# Altium footprint library PAL.PcbLib: 271 footprints (part 1 of 17)
Each footprint in its own frame and in the unit in brackets; x right, y up, seen from the top. Pads: shape width x height; smd on the part's side, far side on the other; paste and mask are expansions set on the pad; w line width, h text height; cw(c..) or ccw(c..) is an arc to the next point about the centre after c.
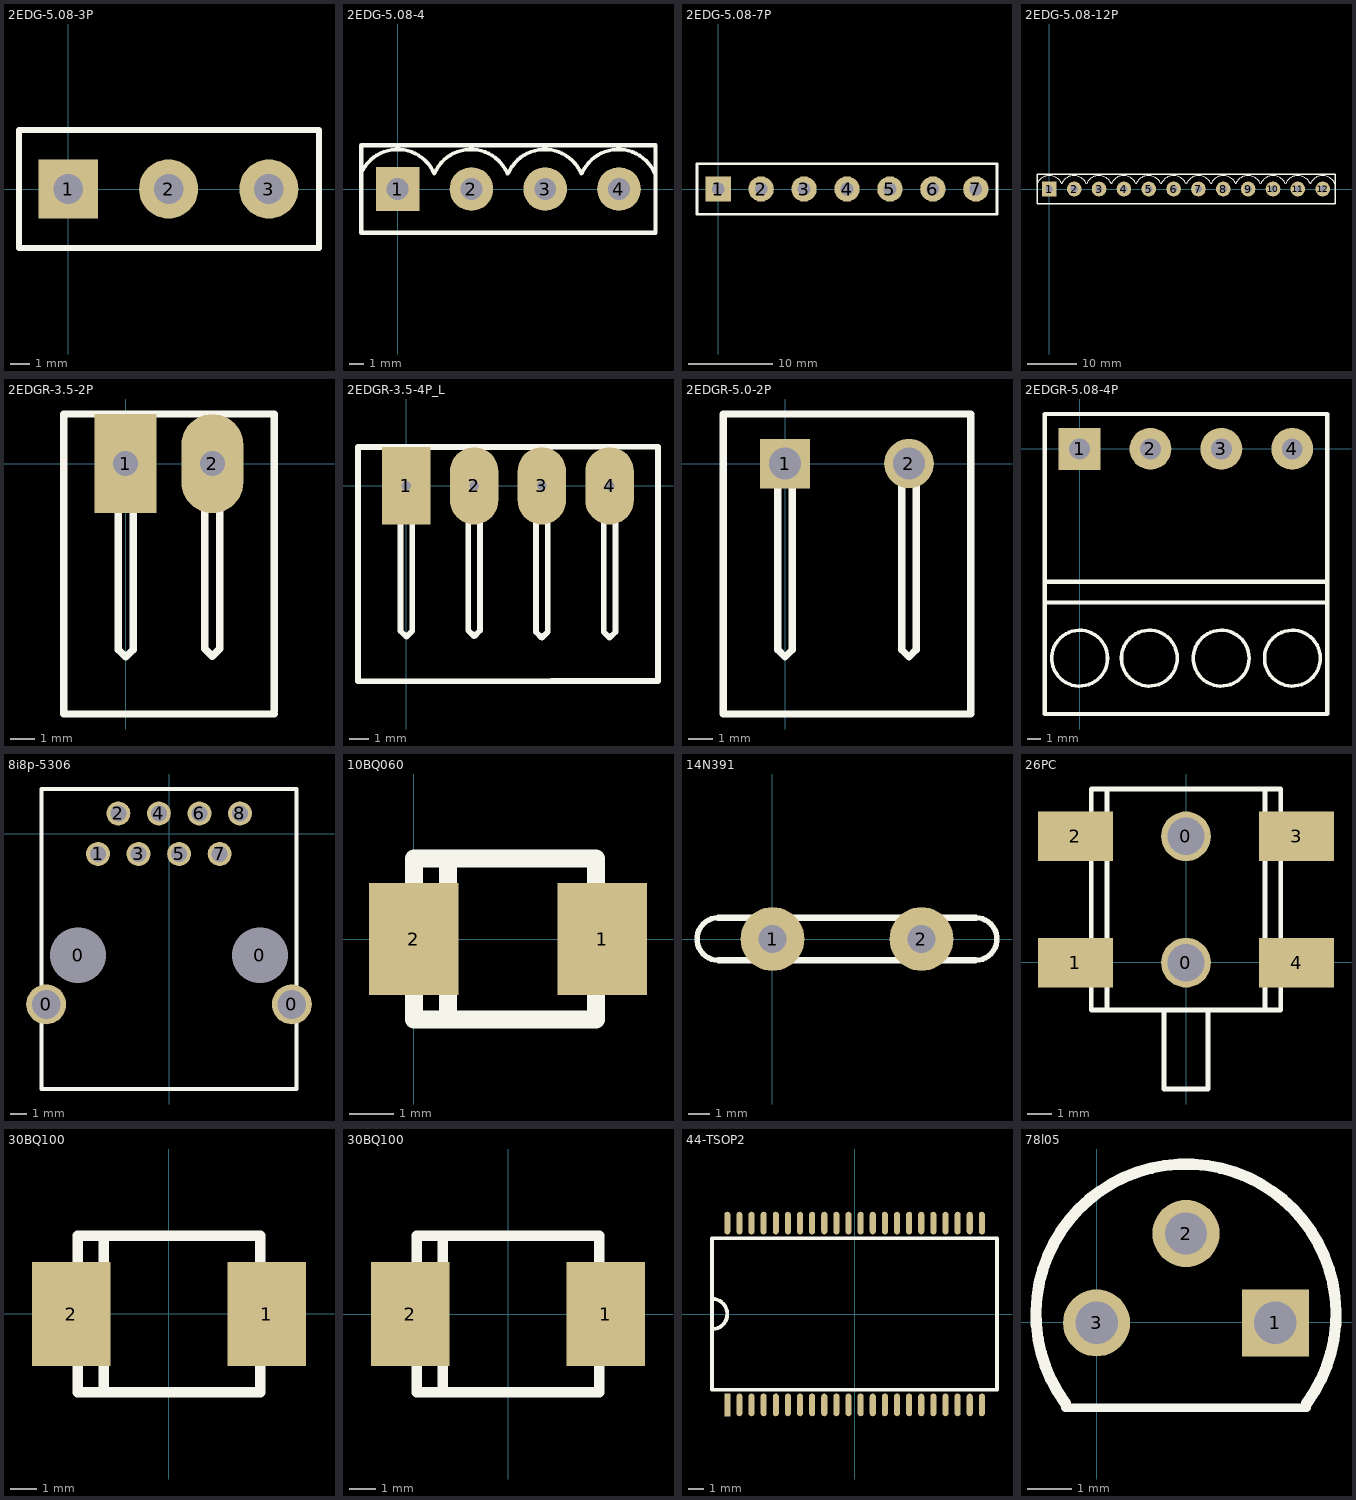
[diagram p0: the footprints below, top view; thin cyan lines are the x and y axes]

## 2EDG-5.08-3P [mm]
pads (3):
  rect 3x3 on Top hole 1.5: 1(0,0)
  round 3 on Top hole 1.5: 2(5.08,0) 3(10.16,0)
Top Overlay:
  lines w0.3: -2.5,-3 12.7,-3 12.7,3 -2.5,3 -2.5,-3

## 2EDG-5.08-4 [mm]
pads (4):
  rect 3x3 on Top hole 1.5: 1(0,0)
  round 3 on Top hole 1.5: 2(5.08,0) 3(10.16,0) 4(15.24,0)
Top Overlay:
  lines w0.254: -2.501,1.086 cw(c0,0) 2.514,1.056 ; 2.549,1.086 cw(c5.05,0) 7.564,1.056 ; 7.624,1.086 cw(c10.125,0) 12.639,1.056 ; 12.699,1.086 cw(c15.2,0) 17.714,1.056
  lines w0.3: -2.5,-3 -2.5,3 17.75,3 17.75,-3 -2.5,-3

## 2EDG-5.08-7P [mm]
pads (7):
  rect 3x3 on Top hole 1.5: 1(0,0)
  round 3 on Top hole 1.5: 2(5.08,0) 3(10.16,0) 4(15.24,0) 5(20.32,0) 6(25.4,0) 7(30.48,0)
Top Overlay:
  lines w0.3: -2.5,-3 -2.5,3 32.98,3 32.98,-3 -2.5,-3

## 2EDG-5.08-12P [mm]
pads (12):
  rect 3x3 on Top hole 1.5: 1(0,0)
  round 3 on Top hole 1.5: 2(5.08,0) 3(10.16,0) 4(15.24,0) 5(20.32,0) 6(25.4,0) 7(30.48,0) 8(35.56,0) 9(40.64,0) 10(45.72,0) 11(50.8,0) 12(55.88,0)
Top Overlay:
  lines w0.254: -2.501,1.086 cw(c0,0) 2.514,1.056 ; 2.549,1.086 cw(c5.05,0) 7.564,1.056 ; 7.624,1.086 cw(c10.125,0) 12.639,1.056 ; 12.699,1.086 cw(c15.2,0) 17.714,1.056 ; 17.774,1.086 cw(c20.275,0) 22.789,1.056 ; 22.899,1.086 cw(c25.4,0) 27.914,1.056 ; 28.024,1.086 cw(c30.525,0) 33.039,1.056 ; 33.074,1.086 cw(c35.575,0) 38.089,1.056 ; 38.124,1.086 cw(c40.625,0) 43.139,1.056 ; 43.249,1.086 cw(c45.75,0) 48.264,1.056 ; 48.299,1.086 cw(c50.8,0) 53.314,1.056 ; 53.374,1.086 cw(c55.875,0) 58.389,1.056
  lines w0.3: -2.5,-3 58.4,-3 58.4,3 -2.5,3 -2.5,-3

## 2EDGR-3.5-2P [mm]
pads (2):
  rect 2.5x4 on Top hole 1: 1(0,0)
  oval 2.5x4 on Top hole 1: 2(3.5,0)
Top Overlay:
  lines w0.3: 6,-10.1 -2.5,-10.1 -2.5,2 6,2 6,-10 ; -0.3,-7.5 -0.3,0 0,0 0.3,0 0.3,-7.5 0,-7.8 -0.3,-7.5 ; 3.2,-7.475 3.2,0.025 3.5,0.025 3.8,0.025 3.8,-7.475 3.5,-7.775 3.2,-7.475

## 2EDGR-3.5-4P_L [mm]
pads (4):
  rect 2.5x4 on Top hole 0.5: 1(0,0)
  oval 2.5x4 on Top hole 0.5: 2(3.5,0) 3(7,0) 4(10.5,0)
Top Overlay:
  lines w0.3: 7.5,-10.1 -2.5,-10.1 -2.5,2 7.5,2 ; 7.5,-10.075 13,-10.075 13,2.025 7.5,2.025 ; -0.3,-7.5 0,-7.8 0.3,-7.5 0.3,0 0,0 -0.3,0 -0.3,-7.5 ; 3.2,-7.475 3.5,-7.775 3.8,-7.475 3.8,0.025 3.5,0.025 3.2,0.025 3.2,-7.475 ; 6.7,-7.55 7,-7.85 7.3,-7.55 7.3,-0.05 7,-0.05 6.7,-0.05 6.7,-7.55 ; 10.2,-7.55 10.5,-7.85 10.8,-7.55 10.8,-0.05 10.5,-0.05 10.2,-0.05 10.2,-7.55

## 2EDGR-5.0-2P [mm] "2EDGR-5.0-2P"
pads (2):
  rect 2x2 on Top hole 1.3: 1(0,0)
  round 2 on Top hole 1.3: 2(5,0)
Top Overlay:
  lines w0.3: -2.5,-10.1 -2.5,2 7.5,2 7.5,-10.1 -2.5,-10.1 ; -0.3,-7.5 0,-7.8 0.3,-7.5 0.3,0 0,0 -0.3,0 -0.3,-7.5 ; 4.7,-7.5 5,-7.8 5.3,-7.5 5.3,0 5,0 4.7,0 4.7,-7.5

## 2EDGR-5.08-4P [mm]
pads (4):
  rect 3x3 on Top hole 1.5: 1(0,0)
  round 3 on Top hole 1.5: 2(5.08,0) 3(10.16,0) 4(15.24,0)
Top Overlay:
  circle w0.254: c0,-15 r2
  circle w0.254: c5,-15 r2
  circle w0.254: c10.15,-15 r2
  circle w0.254: c15.25,-15 r2
  lines w0.3: -2.5,-11 17.75,-11 ; -2.5,-9.525 17.75,-9.525 ; 17.74,-19 -2.5,-19 -2.5,0 -2.5,2.5 17.75,2.5 17.75,-19

## 8i8p-5306 [mm]
pads (12):
  round 2.5 on Top hole 1.8: 0(-7.7,-10.7) 0(7.7,-10.7)
  round 1.5 on Top hole 3.5: 0(-5.7,-7.62) 0(5.7,-7.62)
  round 1.5 on Top hole 1: 1(-4.445,-1.27) 2(-3.175,1.27) 3(-1.905,-1.27) 4(-0.635,1.27) 5(0.635,-1.27) 6(1.905,1.27) 7(3.175,-1.27) 8(4.445,1.27)
Top Overlay:
  lines w0.254: -8,-16 8,-16 8,2.8 -8,2.8 -8,-16

## 10BQ060 [mm]
pads (2):
  rect 2x2.5 smd: 1(4.2,0) 2(0,0)
Top Overlay:
  lines w0.4: 0.762,-1.8 0.762,1.8 ; 0,-1.8 4.064,-1.8 4.064,1.8 0,1.8 0,-1.8

## 14N391 [mm]
pads (2):
  round 3 on Top hole 1.3: 1(0.003,0.002) 2(7.003,0.002)
Top Overlay:
  lines w0.254: -2.547,-0.999 cw(c-2.547,0.002) -2.547,1.002 ; 9.553,-0.999 ccw(c9.553,0.002) 9.553,1.002
  lines w0.3: -2.547,1.002 3.502,1.002 9.553,1.002 ; -2.522,-0.998 3.503,-0.998 9.528,-0.998

## 26PC [mm]
pads (6):
  round 2 on Top hole 1.5: 0(-0.012,-0.01) 0(-0.012,5.07)
  rect 3x2 smd: 1(-4.457,-0.01) 2(-4.457,5.07) 3(4.433,5.07) 4(4.433,-0.01)
Top Overlay:
  lines w0.2: -3.187,-1.915 -3.187,6.975 ; -0.901,-1.915 -0.901,-5.09 0.877,-5.09 0.877,-1.915 ; 3.163,-1.915 3.163,6.975 ; -3.822,-1.915 3.798,-1.915 3.798,6.975 -3.822,6.975 -3.822,-1.915

## 30BQ100 [mm]
pads (2):
  rect 3x4 smd: 1(3.753,-0.01) 2(-3.747,-0.01)
Top Overlay:
  lines w0.4: -2.497,-3.01 -2.497,2.99 ; -3.497,-3.01 3.503,-3.01 3.503,2.99 -3.497,2.99 -3.497,-3.01

## 30BQ100  [mm]
pads (2):
  rect 3x4 smd: 1(3.75,0) 2(-3.75,0)
Top Overlay:
  lines w0.4: -2.5,-3 -2.5,3 ; -3.5,-3 3.5,-3 3.5,3 -3.5,3 -3.5,-3

## 44-TSOP2 [mm]
pads (44):
  rect 0.4x1.5 smd: 1(-8.4,-6)
  oval 0.4x1.5 smd: 2(-7.6,-6) 3(-6.8,-6) 4(-6,-6) 5(-5.2,-6) 6(-4.4,-6) 7(-3.6,-6) 8(-2.8,-6) 9(-2,-6) 10(-1.2,-6) 11(-0.4,-6) 12(0.4,-6) 13(1.2,-6) 14(2,-6) 15(2.8,-6) 16(3.6,-6) 17(4.4,-6) 18(5.2,-6) 19(6,-6) 20(6.8,-6) 21(7.6,-6) 22(8.4,-6) 23(8.4,6) 24(7.6,6) 25(6.8,6) 26(6,6) 27(5.2,6) 28(4.4,6) 29(3.6,6) 30(2.8,6) 31(2,6) 32(1.2,6) 33(0.4,6) 34(-0.4,6) 35(-1.2,6) 36(-2,6) 37(-2.8,6) 38(-3.6,6) 39(-4.4,6) 40(-5.2,6) 41(-6,6) 42(-6.8,6) 43(-7.6,6) 44(-8.4,6)
Top Overlay:
  lines w0.254: -9.4,1 cw(c-9.4,0) -9.357,-0.999 ; -9.4,-5 -9.4,0 -9.4,5 0,5 9.4,5 9.4,0 9.4,-5 0,-5 -9.4,-5

## 78l05 [mm]
pads (3):
  rect 1.5x1.5 on Top hole 0.95: 1(3.994,-0.012)
  round 1.5 on Top hole 0.95: 2(1.994,1.988) 3(-0.006,-0.012)
Top Overlay:
  lines w0.2: -0.701,-1.908 4.689,-1.908
  lines w0.254: -0.701,-1.808 cw(c1.994,0.188) 4.689,-1.808